# EAGLE library part ENC28J60 (library Microchip)
ENC28J60 - Stand-Alone Ethernet Controller with SPI Interface
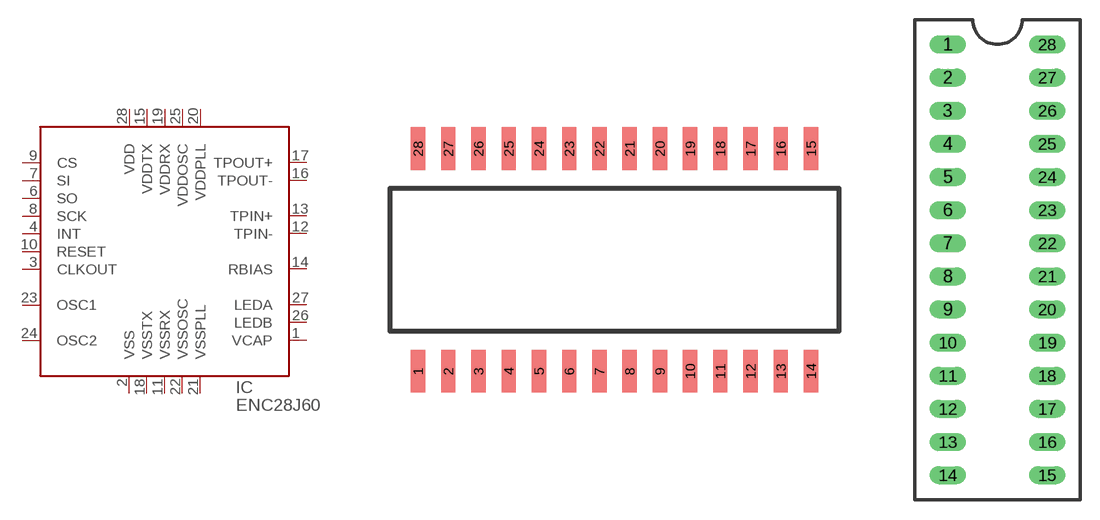
[diagram p6: symbol with the pads of SOIC28; footprints SOIC28, DIP-28S]

Designator prefix IC

## ENC28J60SO  [SOIC28]
1  VCAP
2  VSS
3  CLKOUT
4  INT
6  SO
7  SI
8  SCK
9  CS
10  RESET
11  VSSRX
12  TPIN-
13  TPIN+
14  RBIAS
15  VDDTX
16  TPOUT-
17  TPOUT+
18  VSSTX
19  VDDRX
20  VDDPLL
21  VSSPLL
22  VSSOSC
23  OSC1
24  OSC2
25  VDDOSC
26  LEDB
27  LEDA
28  VDD

## ENC28J60SP  [DIP-28S]
Pads as for SOIC28

## ENC28J60SS  [SSOP28L]
Pads as for SOIC28

## Footprint SOIC28 (pad centres in mm)
SOIC-28 1.27mm pitch, 10.5mm width, 18mm length
smd 0.6 x 1.8: 1 -8.255,-4.679; 2 -6.985,-4.679; 3 -5.715,-4.679; 4 -4.445,-4.679; 5 -3.175,-4.679; 6 -1.905,-4.679; 7 -0.635,-4.679; 8 0.635,-4.679; 9 1.905,-4.679; 10 3.175,-4.679; 11 4.445,-4.679; 12 5.715,-4.679; 13 6.985,-4.679; 14 8.255,-4.679; 15 8.255,4.679; 16 6.985,4.679; 17 5.715,4.679; 18 4.445,4.679; 19 3.175,4.679; 20 1.905,4.679; 21 0.635,4.679; 22 -0.635,4.679; 23 -1.905,4.679; 24 -3.175,4.679; 25 -4.445,4.679; 26 -5.715,4.679; 27 -6.985,4.679; 28 -8.255,4.679

## Footprint DIP-28S (pad centres in mm)
drill 0.889 long: 1 -3.81,16.51; 2 -3.81,13.97; 3 -3.81,11.43; 4 -3.81,8.89; 5 -3.81,6.35; 6 -3.81,3.81; 7 -3.81,1.27; 8 -3.81,-1.27; 9 -3.81,-3.81; 10 -3.81,-6.35; 11 -3.81,-8.89; 12 -3.81,-11.43; 13 -3.81,-13.97; 14 -3.81,-16.51; 15 3.81,-16.51; 16 3.81,-13.97; 17 3.81,-11.43; 18 3.81,-8.89; 19 3.81,-6.35; 20 3.81,-3.81; 21 3.81,-1.27; 22 3.81,1.27; 23 3.81,3.81; 24 3.81,6.35; 25 3.81,8.89; 26 3.81,11.43; 27 3.81,13.97; 28 3.81,16.51

## Footprint SSOP28L (pad centres in mm)
28 pin SSOP, 0.65mm lead pitch
smd 0.4 x 1.5: 1 -4.225,-3.575; 2 -3.575,-3.575; 3 -2.925,-3.575; 4 -2.275,-3.575; 5 -1.625,-3.575; 6 -0.975,-3.575; 7 -0.325,-3.575; 8 0.325,-3.575; 9 0.975,-3.575; 10 1.625,-3.575; 11 2.275,-3.575; 12 2.925,-3.575; 13 3.575,-3.575; 14 4.225,-3.575; 15 4.225,3.575; 16 3.575,3.575; 17 2.925,3.575; 18 2.275,3.575; 19 1.625,3.575; 20 0.975,3.575; 21 0.325,3.575; 22 -0.325,3.575; 23 -0.975,3.575; 24 -1.625,3.575; 25 -2.275,3.575; 26 -2.925,3.575; 27 -3.575,3.575; 28 -4.225,3.575